# EAGLE library part LIS3LV02DQ (library imu1)
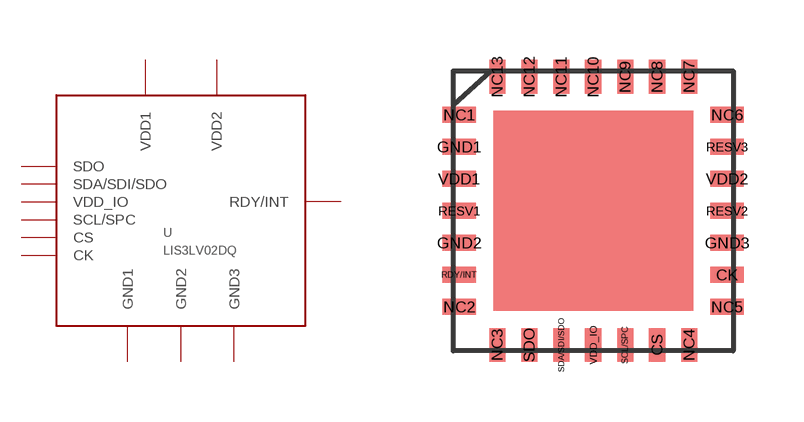
[diagram p3: symbol with the pads of LIS3LV02DQ; footprint LIS3LV02DQ]

Designator prefix -

## LIS3LV02DQ  [LIS3LV02DQ]
CK  CK
CS  CS
GND1  GND1
GND2  GND2
GND3  GND3
RDY/INT  RDY/INT
SCL/SPC  SCL/SPC
SDA/SDI/SDO  SDA/SDI/SDO
SDO  SDO
VDD1  VDD1
VDD2  VDD2
VDD_IO  VDD_IO

## Footprint LIS3LV02DQ (pad centres in mm)
smd 0.85 x 0.4: CK 6.85,1.9; GND1 0.15,5.1; GND2 0.15,2.7; GND3 6.85,2.7; NC1 0.15,5.9; NC2 0.15,1.1; NC5 6.85,1.1; NC6 6.85,5.9; RDY/INT 0.15,1.9; RESV1 0.15,3.5; RESV2 6.85,3.5; RESV3 6.85,5.1; VDD1 0.15,4.3; VDD2 6.85,4.3
smd 0.4 x 0.85: CS 5.1,0.15; NC3 1.1,0.15; NC4 5.9,0.15; NC7 5.9,6.85; NC8 5.1,6.85; NC9 4.3,6.85; NC10 3.5,6.85; NC11 2.7,6.85; NC12 1.9,6.85; NC13 1.1,6.85; SCL/SPC 4.3,0.15; SDA/SDI/SDO 2.7,0.15; SDO 1.9,0.15; VDD_IO 3.5,0.15